# Altium integrated library WE-MAPI (rev25a).IntLib: 184 symbols (part 2 of 4)
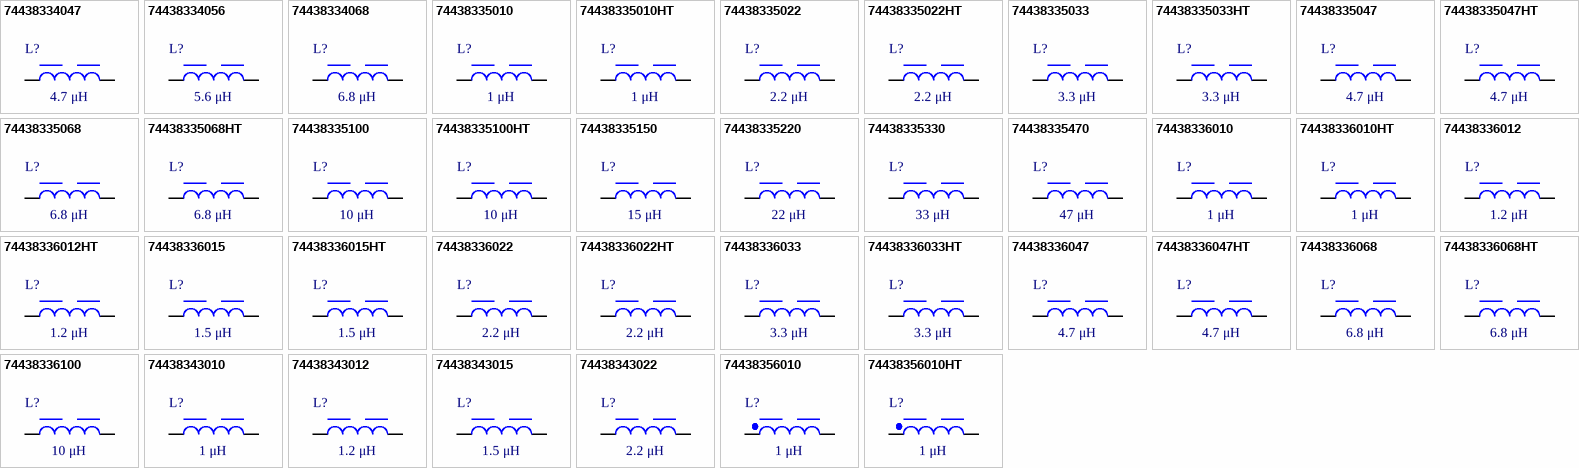
[diagram p5: symbols 74438334047 to 74438356010HT]

## 74438335150
designator L?, comment 15 μH
WE-MAPI SMT Power Inductor, size 3015, 15 μH, 0.95 A, 720 mΩ; Manufacturer Part Number: 74438335150; Manufacturer: Wurth Elektronik; Case/Size Code: 3015; DC Resistance: 720 mΩ; Operating Voltage (DC): 80 V; Performance Rated Current: 0.95 A; Saturation Current @ 30%: 2.2 A; Self Resonant Frequency: 14 MHz; Category: Power Inductors; Match Code: WE-MAPI; ComponentLink1Description: Website Link; ComponentLink1URL: https://www.we-online.com/redexpert/article/74438335150?ad; ComponentLink2Description: Datasheet Link; ComponentLink2URL: https://www.we-online.com/redexpert/spec/74438335150?ad; Mount: Surface Mount; Min Operating Temperature: -40 °C; Max Operating Temperature: 125 °C; Packaging: Tape and Reel; Length: 3 mm; Width: 3 mm; Height: 1.5 mm; Inductance: 15 μH
footprint WE-MAPI_3015
simulation model 3015_74438335150_15u
pins: 1, 2

## 74438335220
designator L?, comment 22 μH
WE-MAPI SMT Power Inductor, size 3015, 22 μH, 0.85 A, 940 mΩ; Manufacturer Part Number: 74438335220; Manufacturer: Wurth Elektronik; Case/Size Code: 3015; DC Resistance: 940 mΩ; Operating Voltage (DC): 80 V; Performance Rated Current: 0.85 A; Saturation Current @ 30%: 1.95 A; Self Resonant Frequency: 12 MHz; Category: Power Inductors; Match Code: WE-MAPI; ComponentLink1Description: Website Link; ComponentLink1URL: https://www.we-online.com/redexpert/article/74438335220?ad; ComponentLink2Description: Datasheet Link; ComponentLink2URL: https://www.we-online.com/redexpert/spec/74438335220?ad; Mount: Surface Mount; Min Operating Temperature: -40 °C; Max Operating Temperature: 125 °C; Packaging: Tape and Reel; Length: 3 mm; Width: 3 mm; Height: 1.5 mm; Inductance: 22 μH
footprint WE-MAPI_3015
simulation model 3015_74438335220_22u
pins: 1, 2

## 74438335330
designator L?, comment 33 μH
WE-MAPI SMT Power Inductor, size 3015, 33 μH, 0.7 A, 1210 mΩ; Manufacturer Part Number: 74438335330; Manufacturer: Wurth Elektronik; Case/Size Code: 3015; DC Resistance: 1210 mΩ; Operating Voltage (DC): 80 V; Performance Rated Current: 0.7 A; Saturation Current @ 30%: 1.7 A; Self Resonant Frequency: 10 MHz; Category: Power Inductors; Match Code: WE-MAPI; ComponentLink1Description: Website Link; ComponentLink1URL: https://www.we-online.com/redexpert/article/74438335330?ad; ComponentLink2Description: Datasheet Link; ComponentLink2URL: https://www.we-online.com/redexpert/spec/74438335330?ad; Mount: Surface Mount; Min Operating Temperature: -40 °C; Max Operating Temperature: 125 °C; Packaging: Tape and Reel; Length: 3 mm; Width: 3 mm; Height: 1.5 mm; Inductance: 33 μH
footprint WE-MAPI_3015
simulation model 3015_74438335330_33u
pins: 1, 2

## 74438335470
designator L?, comment 47 μH
WE-MAPI SMT Power Inductor, size 3015, 47 μH, 0.55 A, 2090 mΩ; Manufacturer Part Number: 74438335470; Manufacturer: Wurth Elektronik; Case/Size Code: 3015; DC Resistance: 2090 mΩ; Operating Voltage (DC): 80 V; Performance Rated Current: 0.55 A; Saturation Current @ 30%: 1.5 A; Self Resonant Frequency: 8 MHz; Category: Power Inductors; Match Code: WE-MAPI; ComponentLink1Description: Website Link; ComponentLink1URL: https://www.we-online.com/redexpert/article/74438335470?ad; ComponentLink2Description: Datasheet Link; ComponentLink2URL: https://www.we-online.com/redexpert/spec/74438335470?ad; Mount: Surface Mount; Min Operating Temperature: -40 °C; Max Operating Temperature: 125 °C; Packaging: Tape and Reel; Length: 3 mm; Width: 3 mm; Height: 1.5 mm; Inductance: 47 μH
footprint WE-MAPI_3015
simulation model 3015_74438335470_47u
pins: 1, 2

## 74438336010
designator L?, comment 1 μH
WE-MAPI SMT Power Inductor, size 3020, 1 μH, 6.15 A, 26 mΩ; Manufacturer Part Number: 74438336010; Manufacturer: Wurth Elektronik; Case/Size Code: 3020; DC Resistance: 26 mΩ; Operating Voltage (DC): 80 V; Performance Rated Current: 6.15 A; Saturation Current @ 30%: 6.5 A; Self Resonant Frequency: 67 MHz; Category: Power Inductors; Match Code: WE-MAPI; ComponentLink1Description: Website Link; ComponentLink1URL: https://www.we-online.com/redexpert/article/74438336010?ad; ComponentLink2Description: Datasheet Link; ComponentLink2URL: https://www.we-online.com/redexpert/spec/74438336010?ad; Mount: Surface Mount; Min Operating Temperature: -40 °C; Max Operating Temperature: 125 °C; Packaging: Tape and Reel; Length: 3 mm; Width: 3 mm; Height: 2 mm; Inductance: 1 μH
footprint WE-MAPI_3020
simulation model 3020_74438336010_1u
pins: 1, 2

## 74438336010HT
designator L?, comment 1 μH
WE-MAPI SMT Power Inductor, size 3020, 1 μH, 5.8 A, 28.5 mΩ; Manufacturer Part Number: 74438336010HT; Manufacturer: Wurth Elektronik; Case/Size Code: 3020; DC Resistance: 28.5 mΩ; Operating Voltage (DC): 80 V; Performance Rated Current: 5.8 A; Saturation Current @ 30%: 6.3 A; Self Resonant Frequency: 67 MHz; Category: Power Inductors; Match Code: WE-MAPI; ComponentLink1Description: Website Link; ComponentLink1URL: https://www.we-online.com/redexpert/article/74438336010HT?ad; ComponentLink2Description: Datasheet Link; ComponentLink2URL: https://www.we-online.com/redexpert/spec/74438336010HT?ad; Mount: Surface Mount; Min Operating Temperature: -55 °C; Max Operating Temperature: 150 °C; Packaging: Tape and Reel; Length: 3 mm; Width: 3 mm; Height: 2 mm; Inductance: 1 μH
footprint WE-MAPI_3020
simulation model 3020HT_74438336010HT_1u
pins: 1, 2

## 74438336012
designator L?, comment 1.2 μH
WE-MAPI SMT Power Inductor, size 3020, 1.2 μH, 5.65 A, 30 mΩ; Manufacturer Part Number: 74438336012; Manufacturer: Wurth Elektronik; Case/Size Code: 3020; DC Resistance: 30 mΩ; Operating Voltage (DC): 80 V; Performance Rated Current: 5.65 A; Saturation Current @ 30%: 6 A; Self Resonant Frequency: 57 MHz; Category: Power Inductors; Match Code: WE-MAPI; ComponentLink1Description: Website Link; ComponentLink1URL: https://www.we-online.com/redexpert/article/74438336012?ad; ComponentLink2Description: Datasheet Link; ComponentLink2URL: https://www.we-online.com/redexpert/spec/74438336012?ad; Mount: Surface Mount; Min Operating Temperature: -40 °C; Max Operating Temperature: 125 °C; Packaging: Tape and Reel; Length: 3 mm; Width: 3 mm; Height: 2 mm; Inductance: 1.2 μH
footprint WE-MAPI_3020
simulation model 3020_74438336012_1.2u
pins: 1, 2

## 74438336012HT
designator L?, comment 1.2 μH
WE-MAPI SMT Power Inductor, size 3020, 1.2 μH, 5.4 A, 32.6 mΩ; Manufacturer Part Number: 74438336012HT; Manufacturer: Wurth Elektronik; Case/Size Code: 3020; DC Resistance: 32.6 mΩ; Operating Voltage (DC): 80 V; Performance Rated Current: 5.4 A; Saturation Current @ 30%: 6 A; Self Resonant Frequency: 60 MHz; Category: Power Inductors; Match Code: WE-MAPI; ComponentLink1Description: Website Link; ComponentLink1URL: https://www.we-online.com/redexpert/article/74438336012HT?ad; ComponentLink2Description: Datasheet Link; ComponentLink2URL: https://www.we-online.com/redexpert/spec/74438336012HT?ad; Mount: Surface Mount; Min Operating Temperature: -55 °C; Max Operating Temperature: 150 °C; Packaging: Tape and Reel; Length: 3 mm; Width: 3 mm; Height: 2 mm; Inductance: 1.2 μH
footprint WE-MAPI_3020
simulation model 3020HT_74438336012HT_1.2u
pins: 1, 2

## 74438336015
designator L?, comment 1.5 μH
WE-MAPI SMT Power Inductor, size 3020, 1.5 μH, 5.35 A, 33 mΩ; Manufacturer Part Number: 74438336015; Manufacturer: Wurth Elektronik; Case/Size Code: 3020; DC Resistance: 33 mΩ; Operating Voltage (DC): 80 V; Performance Rated Current: 5.35 A; Saturation Current @ 30%: 5.85 A; Self Resonant Frequency: 51 MHz; Category: Power Inductors; Match Code: WE-MAPI; ComponentLink1Description: Website Link; ComponentLink1URL: https://www.we-online.com/redexpert/article/74438336015?ad; ComponentLink2Description: Datasheet Link; ComponentLink2URL: https://www.we-online.com/redexpert/spec/74438336015?ad; Mount: Surface Mount; Min Operating Temperature: -40 °C; Max Operating Temperature: 125 °C; Packaging: Tape and Reel; Length: 3 mm; Width: 3 mm; Height: 2 mm; Inductance: 1.5 μH
footprint WE-MAPI_3020
simulation model 3020_74438336015_1.5u
pins: 1, 2

## 74438336015HT
designator L?, comment 1.5 μH
WE-MAPI SMT Power Inductor, size 3020, 1.5 μH, 5.2 A, 35.2 mΩ; Manufacturer Part Number: 74438336015HT; Manufacturer: Wurth Elektronik; Case/Size Code: 3020; DC Resistance: 35.2 mΩ; Operating Voltage (DC): 80 V; Performance Rated Current: 5.2 A; Saturation Current @ 30%: 5.5 A; Self Resonant Frequency: 53 MHz; Category: Power Inductors; Match Code: WE-MAPI; ComponentLink1Description: Website Link; ComponentLink1URL: https://www.we-online.com/redexpert/article/74438336015HT?ad; ComponentLink2Description: Datasheet Link; ComponentLink2URL: https://www.we-online.com/redexpert/spec/74438336015HT?ad; Mount: Surface Mount; Min Operating Temperature: -55 °C; Max Operating Temperature: 150 °C; Packaging: Tape and Reel; Length: 3 mm; Width: 3 mm; Height: 2 mm; Inductance: 1.5 μH
footprint WE-MAPI_3020
simulation model 3020HT_74438336015HT_1.5u
pins: 1, 2

## 74438336022
designator L?, comment 2.2 μH
WE-MAPI SMT Power Inductor, size 3020, 2.2 μH, 3.6 A, 67 mΩ; Manufacturer Part Number: 74438336022; Manufacturer: Wurth Elektronik; Case/Size Code: 3020; DC Resistance: 67 mΩ; Operating Voltage (DC): 80 V; Performance Rated Current: 3.6 A; Saturation Current @ 30%: 5.55 A; Self Resonant Frequency: 42 MHz; Category: Power Inductors; Match Code: WE-MAPI; ComponentLink1Description: Website Link; ComponentLink1URL: https://www.we-online.com/redexpert/article/74438336022?ad; ComponentLink2Description: Datasheet Link; ComponentLink2URL: https://www.we-online.com/redexpert/spec/74438336022?ad; Mount: Surface Mount; Min Operating Temperature: -40 °C; Max Operating Temperature: 125 °C; Packaging: Tape and Reel; Length: 3 mm; Width: 3 mm; Height: 2 mm; Inductance: 2.2 μH
footprint WE-MAPI_3020
simulation model 3020_74438336022_2.2u
pins: 1, 2

## 74438336022HT
designator L?, comment 2.2 μH
WE-MAPI SMT Power Inductor, size 3020, 2.2 μH, 4 A, 56.9 mΩ; Manufacturer Part Number: 74438336022HT; Manufacturer: Wurth Elektronik; Case/Size Code: 3020; DC Resistance: 56.9 mΩ; Operating Voltage (DC): 80 V; Performance Rated Current: 4 A; Saturation Current @ 30%: 5.2 A; Self Resonant Frequency: 47 MHz; Category: Power Inductors; Match Code: WE-MAPI; ComponentLink1Description: Website Link; ComponentLink1URL: https://www.we-online.com/redexpert/article/74438336022HT?ad; ComponentLink2Description: Datasheet Link; ComponentLink2URL: https://www.we-online.com/redexpert/spec/74438336022HT?ad; Mount: Surface Mount; Min Operating Temperature: -55 °C; Max Operating Temperature: 150 °C; Packaging: Tape and Reel; Length: 3 mm; Width: 3 mm; Height: 2 mm; Inductance: 2.2 μH
footprint WE-MAPI_3020
simulation model 3020HT_74438336022HT_2.2u
pins: 1, 2

## 74438336033
designator L?, comment 3.3 μH
WE-MAPI SMT Power Inductor, size 3020, 3.3 μH, 2.9 A, 99 mΩ; Manufacturer Part Number: 74438336033; Manufacturer: Wurth Elektronik; Case/Size Code: 3020; DC Resistance: 99 mΩ; Operating Voltage (DC): 80 V; Performance Rated Current: 2.9 A; Saturation Current @ 30%: 5.35 A; Self Resonant Frequency: 39 MHz; Category: Power Inductors; Match Code: WE-MAPI; ComponentLink1Description: Website Link; ComponentLink1URL: https://www.we-online.com/redexpert/article/74438336033?ad; ComponentLink2Description: Datasheet Link; ComponentLink2URL: https://www.we-online.com/redexpert/spec/74438336033?ad; Mount: Surface Mount; Min Operating Temperature: -40 °C; Max Operating Temperature: 125 °C; Packaging: Tape and Reel; Length: 3 mm; Width: 3 mm; Height: 2 mm; Inductance: 3.3 μH
footprint WE-MAPI_3020
simulation model 3020_74438336033_3.3u
pins: 1, 2

## 74438336033HT
designator L?, comment 3.3 μH
WE-MAPI SMT Power Inductor, size 3020, 3.3 μH, 3.1 A, 85.9 mΩ; Manufacturer Part Number: 74438336033HT; Manufacturer: Wurth Elektronik; Case/Size Code: 3020; DC Resistance: 85.9 mΩ; Operating Voltage (DC): 80 V; Performance Rated Current: 3.1 A; Saturation Current @ 30%: 4.3 A; Self Resonant Frequency: 37 MHz; Category: Power Inductors; Match Code: WE-MAPI; ComponentLink1Description: Website Link; ComponentLink1URL: https://www.we-online.com/redexpert/article/74438336033HT?ad; ComponentLink2Description: Datasheet Link; ComponentLink2URL: https://www.we-online.com/redexpert/spec/74438336033HT?ad; Mount: Surface Mount; Min Operating Temperature: -55 °C; Max Operating Temperature: 150 °C; Packaging: Tape and Reel; Length: 3 mm; Width: 3 mm; Height: 2 mm; Inductance: 3.3 μH
footprint WE-MAPI_3020
simulation model 3020HT_74438336033HT_3.3u
pins: 1, 2

## 74438336047
designator L?, comment 4.7 μH
WE-MAPI SMT Power Inductor, size 3020, 4.7 μH, 2.4 A, 137 mΩ; Manufacturer Part Number: 74438336047; Manufacturer: Wurth Elektronik; Case/Size Code: 3020; DC Resistance: 137 mΩ; Operating Voltage (DC): 80 V; Performance Rated Current: 2.4 A; Saturation Current @ 30%: 5.15 A; Self Resonant Frequency: 30 MHz; Category: Power Inductors; Match Code: WE-MAPI; ComponentLink1Description: Website Link; ComponentLink1URL: https://www.we-online.com/redexpert/article/74438336047?ad; ComponentLink2Description: Datasheet Link; ComponentLink2URL: https://www.we-online.com/redexpert/spec/74438336047?ad; Mount: Surface Mount; Min Operating Temperature: -40 °C; Max Operating Temperature: 125 °C; Packaging: Tape and Reel; Length: 3 mm; Width: 3 mm; Height: 2 mm; Inductance: 4.7 μH
footprint WE-MAPI_3020
simulation model 3020_74438336047_4.7u
pins: 1, 2

## 74438336047HT
designator L?, comment 4.7 μH
WE-MAPI SMT Power Inductor, size 3020, 4.7 μH, 2.5 A, 130.6 mΩ; Manufacturer Part Number: 74438336047HT; Manufacturer: Wurth Elektronik; Case/Size Code: 3020; Operating Voltage (DC): 80 V; Performance Rated Current: 2.5 A; Saturation Current @ 30%: 4.1 A; Self Resonant Frequency: 28 MHz; Category: Power Inductors; Match Code: WE-MAPI; ComponentLink1Description: Website Link; ComponentLink1URL: https://www.we-online.com/redexpert/article/74438336047HT?ad; ComponentLink2Description: Datasheet Link; ComponentLink2URL: https://www.we-online.com/redexpert/spec/74438336047HT?ad; Mount: Surface Mount; Min Operating Temperature: -55 °C; Max Operating Temperature: 150 °C; Packaging: Tape and Reel; Length: 3 mm; Width: 3 mm; Height: 2 mm; DC Resistance: 130.6 mΩ; Inductance: 4.7 μH
footprint WE-MAPI_3020
simulation model 3020HT_74438336047HT_4.7u
pins: 1, 2

## 74438336068
designator L?, comment 6.8 μH
WE-MAPI SMT Power Inductor, size 3020, 6.8 μH, 2.15 A, 168 mΩ; Manufacturer Part Number: 74438336068; Manufacturer: Wurth Elektronik; Case/Size Code: 3020; DC Resistance: 168 mΩ; Operating Voltage (DC): 80 V; Performance Rated Current: 2.15 A; Saturation Current @ 30%: 3.65 A; Self Resonant Frequency: 22 MHz; Category: Power Inductors; Match Code: WE-MAPI; ComponentLink1Description: Website Link; ComponentLink1URL: https://www.we-online.com/redexpert/article/74438336068?ad; ComponentLink2Description: Datasheet Link; ComponentLink2URL: https://www.we-online.com/redexpert/spec/74438336068?ad; Mount: Surface Mount; Min Operating Temperature: -40 °C; Max Operating Temperature: 125 °C; Packaging: Tape and Reel; Length: 3 mm; Width: 3 mm; Height: 2 mm; Inductance: 6.8 μH
footprint WE-MAPI_3020
simulation model 3020_74438336068_6.8u
pins: 1, 2

## 74438336068HT
designator L?, comment 6.8 μH
WE-MAPI SMT Power Inductor, size 3020, 6.8 μH, 2 A, 197.4 mΩ; Manufacturer Part Number: 74438336068HT; Manufacturer: Wurth Elektronik; Case/Size Code: 3020; Operating Voltage (DC): 80 V; Performance Rated Current: 2 A; Saturation Current @ 30%: 3.7 A; Self Resonant Frequency: 22 MHz; Category: Power Inductors; Match Code: WE-MAPI; ComponentLink1Description: Website Link; ComponentLink1URL: https://www.we-online.com/redexpert/article/74438336068HT?ad; ComponentLink2Description: Datasheet Link; ComponentLink2URL: https://www.we-online.com/redexpert/spec/74438336068HT?ad; Mount: Surface Mount; Min Operating Temperature: -55 °C; Max Operating Temperature: 150 °C; Packaging: Tape and Reel; Length: 3 mm; Width: 3 mm; Height: 2 mm; DC Resistance: 197.4 mΩ; Inductance: 6.8 μH
footprint WE-MAPI_3020
simulation model 3020HT_74438336068HT_6.8u
pins: 1, 2

## 74438336100
designator L?, comment 10 μH
WE-MAPI SMT Power Inductor, size 3020, 10 μH, 1.65 A, 280 mΩ; Manufacturer Part Number: 74438336100; Manufacturer: Wurth Elektronik; Case/Size Code: 3020; DC Resistance: 280 mΩ; Operating Voltage (DC): 80 V; Performance Rated Current: 1.65 A; Saturation Current @ 30%: 3 A; Self Resonant Frequency: 18 MHz; Category: Power Inductors; Match Code: WE-MAPI; ComponentLink1Description: Website Link; ComponentLink1URL: https://www.we-online.com/redexpert/article/74438336100?ad; ComponentLink2Description: Datasheet Link; ComponentLink2URL: https://www.we-online.com/redexpert/spec/74438336100?ad; Mount: Surface Mount; Min Operating Temperature: -40 °C; Max Operating Temperature: 125 °C; Packaging: Tape and Reel; Length: 3 mm; Width: 3 mm; Height: 2 mm; Inductance: 10 μH
footprint WE-MAPI_3020
simulation model 3020_74438336100_10u
pins: 1, 2

## 74438343010
designator L?, comment 1 μH
WE-MAPI SMT Power Inductor, size 2010, 1 μH, 2.8 A, 86 mΩ; Manufacturer Part Number: 74438343010; Manufacturer: Wurth Elektronik; Case/Size Code: 2010; DC Resistance: 86 mΩ; Operating Voltage (DC): 80 V; Performance Rated Current: 2.8 A; Saturation Current @ 30%: 4.7 A; Self Resonant Frequency: 99 MHz; Category: Power Inductors; Match Code: WE-MAPI; ComponentLink1Description: Website Link; ComponentLink1URL: https://www.we-online.com/redexpert/article/74438343010?ad; ComponentLink2Description: Datasheet Link; ComponentLink2URL: https://www.we-online.com/redexpert/spec/74438343010?ad; Mount: Surface Mount; Min Operating Temperature: -40 °C; Max Operating Temperature: 125 °C; Packaging: Tape and Reel; Length: 2 mm; Width: 1.6 mm; Height: 1 mm; Inductance: 1 μH
footprint WE-MAPI_2010
simulation model 2010_74438343010_1u
pins: 1, 2

## 74438343012
designator L?, comment 1.2 μH
WE-MAPI SMT Power Inductor, size 2010, 1.2 μH, 2.4 A, 114 mΩ; Manufacturer Part Number: 74438343012; Manufacturer: Wurth Elektronik; Case/Size Code: 2010; DC Resistance: 114 mΩ; Operating Voltage (DC): 80 V; Performance Rated Current: 2.4 A; Saturation Current @ 30%: 4.9 A; Self Resonant Frequency: 96 MHz; Category: Power Inductors; Match Code: WE-MAPI; ComponentLink1Description: Website Link; ComponentLink1URL: https://www.we-online.com/redexpert/article/74438343012?ad; ComponentLink2Description: Datasheet Link; ComponentLink2URL: https://www.we-online.com/redexpert/spec/74438343012?ad; Mount: Surface Mount; Min Operating Temperature: -40 °C; Max Operating Temperature: 125 °C; Packaging: Tape and Reel; Length: 2 mm; Width: 1.6 mm; Height: 1 mm; Inductance: 1.2 μH
footprint WE-MAPI_2010
simulation model 2010_74438343012_1.2u
pins: 1, 2

## 74438343015
designator L?, comment 1.5 μH
WE-MAPI SMT Power Inductor, size 2010, 1.5 μH, 2.05 A, 150 mΩ; Manufacturer Part Number: 74438343015; Manufacturer: Wurth Elektronik; Case/Size Code: 2010; DC Resistance: 150 mΩ; Operating Voltage (DC): 80 V; Performance Rated Current: 2.05 A; Saturation Current @ 30%: 3.95 A; Self Resonant Frequency: 85 MHz; Category: Power Inductors; Match Code: WE-MAPI; ComponentLink1Description: Website Link; ComponentLink1URL: https://www.we-online.com/redexpert/article/74438343015?ad; ComponentLink2Description: Datasheet Link; ComponentLink2URL: https://www.we-online.com/redexpert/spec/74438343015?ad; Mount: Surface Mount; Min Operating Temperature: -40 °C; Max Operating Temperature: 125 °C; Packaging: Tape and Reel; Length: 2 mm; Width: 1.6 mm; Height: 1 mm; Inductance: 1.5 μH
footprint WE-MAPI_2010
simulation model 2010_74438343015_1.5u
pins: 1, 2

## 74438343022
designator L?, comment 2.2 μH
WE-MAPI SMT Power Inductor, size 2010, 2.2 μH, 1.65 A, 225 mΩ; Manufacturer Part Number: 74438343022; Manufacturer: Wurth Elektronik; Case/Size Code: 2010; DC Resistance: 225 mΩ; Operating Voltage (DC): 80 V; Performance Rated Current: 1.65 A; Saturation Current @ 30%: 3.3 A; Self Resonant Frequency: 70 MHz; Category: Power Inductors; Match Code: WE-MAPI; ComponentLink1Description: Website Link; ComponentLink1URL: https://www.we-online.com/redexpert/article/74438343022?ad; ComponentLink2Description: Datasheet Link; ComponentLink2URL: https://www.we-online.com/redexpert/spec/74438343022?ad; Mount: Surface Mount; Min Operating Temperature: -40 °C; Max Operating Temperature: 125 °C; Packaging: Tape and Reel; Length: 2 mm; Width: 1.6 mm; Height: 1 mm; Inductance: 2.2 μH
footprint WE-MAPI_2010
simulation model 2010_74438343022_2.2u
pins: 1, 2

## 74438356010
designator L?, comment 1 μH
WE-MAPI SMT Power Inductor, size 4020, 1 μH, 10.1 A, 12 mΩ; Manufacturer Part Number: 74438356010; Manufacturer: Wurth Elektronik; Case/Size Code: 4020; DC Resistance: 12 mΩ; Operating Voltage (DC): 80 V; Performance Rated Current: 10.1 A; Saturation Current @ 30%: 11.5 A; Self Resonant Frequency: 55 MHz; Category: Power Inductors; Match Code: WE-MAPI; ComponentLink1Description: Website Link; ComponentLink1URL: https://www.we-online.com/redexpert/article/74438356010?ad; ComponentLink2Description: Datasheet Link; ComponentLink2URL: https://www.we-online.com/redexpert/spec/74438356010?ad; Mount: Surface Mount; Min Operating Temperature: -40 °C; Max Operating Temperature: 125 °C; Packaging: Tape and Reel; Length: 4.1 mm; Width: 4.1 mm; Height: 2.1 mm; Inductance: 1 μH
footprint WE-MAPI_4020
simulation model 4020_74438356010_1u
pins: 1, 2

## 74438356010HT
designator L?, comment 1 μH
WE-MAPI SMT Power Inductor, size 4020, 1 μH, 8.75 A, 13.5 mΩ; Manufacturer Part Number: 74438356010HT; Manufacturer: Wurth Elektronik; Case/Size Code: 4020; DC Resistance: 13.5 mΩ; Operating Voltage (DC): 80 V; Performance Rated Current: 8.75 A; Saturation Current @ 30%: 9.3 A; Self Resonant Frequency: 46 MHz; Category: Power Inductors; Match Code: WE-MAPI; ComponentLink1Description: Website Link; ComponentLink1URL: https://www.we-online.com/redexpert/article/74438356010HT?ad; ComponentLink2Description: Datasheet Link; ComponentLink2URL: https://www.we-online.com/redexpert/spec/74438356010HT?ad; Mount: Surface Mount; Min Operating Temperature: -55 °C; Max Operating Temperature: 150 °C; Packaging: Tape and Reel; Length: 4.1 mm; Width: 4.1 mm; Height: 2.1 mm; Inductance: 1 μH
footprint WE-MAPI_4020
simulation model 4020_74438356010HT_1u
pins: 1, 2

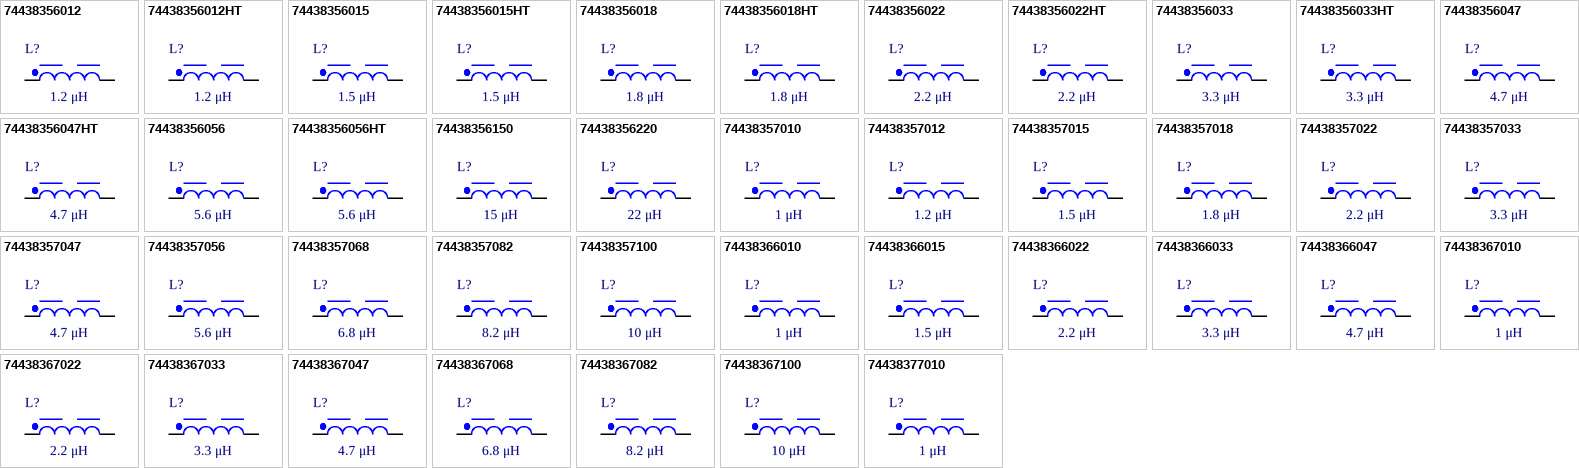
[diagram p2: symbols 74438356012 to 74438377010]

## 74438356012
designator L?, comment 1.2 μH
WE-MAPI SMT Power Inductor, size 4020, 1.2 μH, 8.9 A, 15 mΩ; Manufacturer Part Number: 74438356012; Manufacturer: Wurth Elektronik; Case/Size Code: 4020; DC Resistance: 15 mΩ; Operating Voltage (DC): 80 V; Performance Rated Current: 8.9 A; Saturation Current @ 30%: 11.2 A; Self Resonant Frequency: 52 MHz; Category: Power Inductors; Match Code: WE-MAPI; ComponentLink1Description: Website Link; ComponentLink1URL: https://www.we-online.com/redexpert/article/74438356012?ad; ComponentLink2Description: Datasheet Link; ComponentLink2URL: https://www.we-online.com/redexpert/spec/74438356012?ad; Mount: Surface Mount; Min Operating Temperature: -40 °C; Max Operating Temperature: 125 °C; Packaging: Tape and Reel; Length: 4.1 mm; Width: 4.1 mm; Height: 2.1 mm; Inductance: 1.2 μH
footprint WE-MAPI_4020
simulation model 4020_74438356012_1.2u
pins: 1, 2

## 74438356012HT
designator L?, comment 1.2 μH
WE-MAPI SMT Power Inductor, size 4020, 1.2 μH, 8 A, 16 mΩ; Manufacturer Part Number: 74438356012HT; Manufacturer: Wurth Elektronik; Case/Size Code: 4020; DC Resistance: 16 mΩ; Operating Voltage (DC): 80 V; Performance Rated Current: 8 A; Saturation Current @ 30%: 9.3 A; Self Resonant Frequency: 45 MHz; Category: Power Inductors; Match Code: WE-MAPI; ComponentLink1Description: Website Link; ComponentLink1URL: https://www.we-online.com/redexpert/article/74438356012HT?ad; ComponentLink2Description: Datasheet Link; ComponentLink2URL: https://www.we-online.com/redexpert/spec/74438356012HT?ad; Mount: Surface Mount; Min Operating Temperature: -55 °C; Max Operating Temperature: 150 °C; Packaging: Tape and Reel; Length: 4.1 mm; Width: 4.1 mm; Height: 2.1 mm; Inductance: 1.2 μH
footprint WE-MAPI_4020
simulation model 4020_74438356012HT_1.2u
pins: 1, 2

## 74438356015
designator L?, comment 1.5 μH
WE-MAPI SMT Power Inductor, size 4020, 1.5 μH, 8.6 A, 16 mΩ; Manufacturer Part Number: 74438356015; Manufacturer: Wurth Elektronik; Case/Size Code: 4020; DC Resistance: 16 mΩ; Operating Voltage (DC): 80 V; Performance Rated Current: 8.6 A; Saturation Current @ 30%: 10.2 A; Self Resonant Frequency: 48 MHz; Category: Power Inductors; Match Code: WE-MAPI; ComponentLink1Description: Website Link; ComponentLink1URL: https://www.we-online.com/redexpert/article/74438356015?ad; ComponentLink2Description: Datasheet Link; ComponentLink2URL: https://www.we-online.com/redexpert/spec/74438356015?ad; Mount: Surface Mount; Min Operating Temperature: -40 °C; Max Operating Temperature: 125 °C; Packaging: Tape and Reel; Length: 4.1 mm; Width: 4.1 mm; Height: 2.1 mm; Inductance: 1.5 μH
footprint WE-MAPI_4020
simulation model 4020_74438356015_1.5u
pins: 1, 2

## 74438356015HT
designator L?, comment 1.5 μH
WE-MAPI SMT Power Inductor, size 4020, 1.5 μH, 7.45 A, 18 mΩ; Manufacturer Part Number: 74438356015HT; Manufacturer: Wurth Elektronik; Case/Size Code: 4020; DC Resistance: 18 mΩ; Operating Voltage (DC): 80 V; Performance Rated Current: 7.45 A; Saturation Current @ 30%: 9 A; Self Resonant Frequency: 40 MHz; Category: Power Inductors; Match Code: WE-MAPI; ComponentLink1Description: Website Link; ComponentLink1URL: https://www.we-online.com/redexpert/article/74438356015HT?ad; ComponentLink2Description: Datasheet Link; ComponentLink2URL: https://www.we-online.com/redexpert/spec/74438356015HT?ad; Mount: Surface Mount; Min Operating Temperature: -55 °C; Max Operating Temperature: 150 °C; Packaging: Tape and Reel; Length: 4.1 mm; Width: 4.1 mm; Height: 2.1 mm; Inductance: 1.5 μH
footprint WE-MAPI_4020
simulation model 4020_74438356015HT_1.5u
pins: 1, 2

## 74438356018
designator L?, comment 1.8 μH
WE-MAPI SMT Power Inductor, size 4020, 1.8 μH, 6.8 A, 24.5 mΩ; Manufacturer Part Number: 74438356018; Manufacturer: Wurth Elektronik; Case/Size Code: 4020; DC Resistance: 24.5 mΩ; Operating Voltage (DC): 80 V; Performance Rated Current: 6.8 A; Saturation Current @ 30%: 8.7 A; Self Resonant Frequency: 40 MHz; Category: Power Inductors; Match Code: WE-MAPI; ComponentLink1Description: Website Link; ComponentLink1URL: https://www.we-online.com/redexpert/article/74438356018?ad; ComponentLink2Description: Datasheet Link; ComponentLink2URL: https://www.we-online.com/redexpert/spec/74438356018?ad; Mount: Surface Mount; Min Operating Temperature: -40 °C; Max Operating Temperature: 125 °C; Packaging: Tape and Reel; Length: 4.1 mm; Width: 4.1 mm; Height: 2.1 mm; Inductance: 1.8 μH
footprint WE-MAPI_4020
simulation model 4020_74438356018_1.8u
pins: 1, 2

## 74438356018HT
designator L?, comment 1.8 μH
WE-MAPI SMT Power Inductor, size 4020, 1.8 μH, 6.05 A, 26 mΩ; Manufacturer Part Number: 74438356018HT; Manufacturer: Wurth Elektronik; Case/Size Code: 4020; DC Resistance: 26 mΩ; Operating Voltage (DC): 80 V; Performance Rated Current: 6.05 A; Saturation Current @ 30%: 8.3 A; Self Resonant Frequency: 37.5 MHz; Category: Power Inductors; Match Code: WE-MAPI; ComponentLink1Description: Website Link; ComponentLink1URL: https://www.we-online.com/redexpert/article/74438356018HT?ad; ComponentLink2Description: Datasheet Link; ComponentLink2URL: https://www.we-online.com/redexpert/spec/74438356018HT?ad; Mount: Surface Mount; Min Operating Temperature: -55 °C; Max Operating Temperature: 150 °C; Packaging: Tape and Reel; Length: 4.1 mm; Width: 4.1 mm; Height: 2.1 mm; Inductance: 1.8 μH
footprint WE-MAPI_4020
simulation model 4020_74438356018HT_1.8u
pins: 1, 2

## 74438356022
designator L?, comment 2.2 μH
WE-MAPI SMT Power Inductor, size 4020, 2.2 μH, 6.2 A, 29 mΩ; Manufacturer Part Number: 74438356022; Manufacturer: Wurth Elektronik; Case/Size Code: 4020; DC Resistance: 29 mΩ; Operating Voltage (DC): 80 V; Performance Rated Current: 6.2 A; Saturation Current @ 30%: 7.9 A; Self Resonant Frequency: 34 MHz; Category: Power Inductors; Match Code: WE-MAPI; ComponentLink1Description: Website Link; ComponentLink1URL: https://www.we-online.com/redexpert/article/74438356022?ad; ComponentLink2Description: Datasheet Link; ComponentLink2URL: https://www.we-online.com/redexpert/spec/74438356022?ad; Mount: Surface Mount; Min Operating Temperature: -40 °C; Max Operating Temperature: 125 °C; Packaging: Tape and Reel; Length: 4.1 mm; Width: 4.1 mm; Height: 2.1 mm; Inductance: 2.2 μH
footprint WE-MAPI_4020
simulation model 4020_74438356022_2.2u
pins: 1, 2

## 74438356022HT
designator L?, comment 2.2 μH
WE-MAPI SMT Power Inductor, size 4020, 2.2 μH, 5.9 A, 28 mΩ; Manufacturer Part Number: 74438356022HT; Manufacturer: Wurth Elektronik; Case/Size Code: 4020; DC Resistance: 28 mΩ; Operating Voltage (DC): 80 V; Performance Rated Current: 5.9 A; Saturation Current @ 30%: 7.6 A; Self Resonant Frequency: 30 MHz; Category: Power Inductors; Match Code: WE-MAPI; ComponentLink1Description: Website Link; ComponentLink1URL: https://www.we-online.com/redexpert/article/74438356022HT?ad; ComponentLink2Description: Datasheet Link; ComponentLink2URL: https://www.we-online.com/redexpert/spec/74438356022HT?ad; Mount: Surface Mount; Min Operating Temperature: -55 °C; Max Operating Temperature: 150 °C; Packaging: Tape and Reel; Length: 4.1 mm; Width: 4.1 mm; Height: 2.1 mm; Inductance: 2.2 μH
footprint WE-MAPI_4020
simulation model 4020_74438356022HT_2.2u
pins: 1, 2

## 74438356033
designator L?, comment 3.3 μH
WE-MAPI SMT Power Inductor, size 4020, 3.3 μH, 5.15 A, 39.9 mΩ; Manufacturer Part Number: 74438356033; Manufacturer: Wurth Elektronik; Case/Size Code: 4020; DC Resistance: 39.9 mΩ; Operating Voltage (DC): 80 V; Performance Rated Current: 5.15 A; Saturation Current @ 30%: 7.1 A; Self Resonant Frequency: 26 MHz; Category: Power Inductors; Match Code: WE-MAPI; ComponentLink1Description: Website Link; ComponentLink1URL: https://www.we-online.com/redexpert/article/74438356033?ad; ComponentLink2Description: Datasheet Link; ComponentLink2URL: https://www.we-online.com/redexpert/spec/74438356033?ad; Mount: Surface Mount; Min Operating Temperature: -40 °C; Max Operating Temperature: 125 °C; Packaging: Tape and Reel; Length: 4.1 mm; Width: 4.1 mm; Height: 2.1 mm; Inductance: 3.3 μH
footprint WE-MAPI_4020
simulation model 4020_74438356033_3.3u
pins: 1, 2

## 74438356033HT
designator L?, comment 3.3 μH
WE-MAPI SMT Power Inductor, size 4020, 3.3 μH, 4.45 A, 45 mΩ; Manufacturer Part Number: 74438356033HT; Manufacturer: Wurth Elektronik; Case/Size Code: 4020; DC Resistance: 45 mΩ; Operating Voltage (DC): 80 V; Performance Rated Current: 4.45 A; Saturation Current @ 30%: 6.5 A; Self Resonant Frequency: 25.5 MHz; Category: Power Inductors; Match Code: WE-MAPI; ComponentLink1Description: Website Link; ComponentLink1URL: https://www.we-online.com/redexpert/article/74438356033HT?ad; ComponentLink2Description: Datasheet Link; ComponentLink2URL: https://www.we-online.com/redexpert/spec/74438356033HT?ad; Mount: Surface Mount; Min Operating Temperature: -55 °C; Max Operating Temperature: 150 °C; Packaging: Tape and Reel; Length: 4.1 mm; Width: 4.1 mm; Height: 2.1 mm; Inductance: 3.3 μH
footprint WE-MAPI_4020
simulation model 4020_74438356033HT_3.3u
pins: 1, 2

## 74438356047
designator L?, comment 4.7 μH
WE-MAPI SMT Power Inductor, size 4020, 4.7 μH, 4 A, 63 mΩ; Manufacturer Part Number: 74438356047; Manufacturer: Wurth Elektronik; Case/Size Code: 4020; DC Resistance: 63 mΩ; Operating Voltage (DC): 80 V; Performance Rated Current: 4 A; Saturation Current @ 30%: 5.75 A; Self Resonant Frequency: 22 MHz; Category: Power Inductors; Match Code: WE-MAPI; ComponentLink1Description: Website Link; ComponentLink1URL: https://www.we-online.com/redexpert/article/74438356047?ad; ComponentLink2Description: Datasheet Link; ComponentLink2URL: https://www.we-online.com/redexpert/spec/74438356047?ad; Mount: Surface Mount; Min Operating Temperature: -40 °C; Max Operating Temperature: 125 °C; Packaging: Tape and Reel; Length: 4.1 mm; Width: 4.1 mm; Height: 2.1 mm; Inductance: 4.7 μH
footprint WE-MAPI_4020
simulation model 4020_74438356047_4.7u
pins: 1, 2

## 74438356047HT
designator L?, comment 4.7 μH
WE-MAPI SMT Power Inductor, size 4020, 4.7 μH, 3.7 A, 65 mΩ; Manufacturer Part Number: 74438356047HT; Manufacturer: Wurth Elektronik; Case/Size Code: 4020; DC Resistance: 65 mΩ; Operating Voltage (DC): 80 V; Performance Rated Current: 3.7 A; Saturation Current @ 30%: 5.05 A; Self Resonant Frequency: 18 MHz; Category: Power Inductors; Match Code: WE-MAPI; ComponentLink1Description: Website Link; ComponentLink1URL: https://www.we-online.com/redexpert/article/74438356047HT?ad; ComponentLink2Description: Datasheet Link; ComponentLink2URL: https://www.we-online.com/redexpert/spec/74438356047HT?ad; Mount: Surface Mount; Min Operating Temperature: -55 °C; Max Operating Temperature: 150 °C; Packaging: Tape and Reel; Length: 4.1 mm; Width: 4.1 mm; Height: 2.1 mm; Inductance: 4.7 μH
footprint WE-MAPI_4020
simulation model 4020_74438356047HT_4.7u
pins: 1, 2

## 74438356056
designator L?, comment 5.6 μH
WE-MAPI SMT Power Inductor, size 4020, 5.6 μH, 3.85 A, 68 mΩ; Manufacturer Part Number: 74438356056; Manufacturer: Wurth Elektronik; Case/Size Code: 4020; DC Resistance: 68 mΩ; Operating Voltage (DC): 80 V; Performance Rated Current: 3.85 A; Saturation Current @ 30%: 5.5 A; Self Resonant Frequency: 20 MHz; Category: Power Inductors; Match Code: WE-MAPI; ComponentLink1Description: Website Link; ComponentLink1URL: https://www.we-online.com/redexpert/article/74438356056?ad; ComponentLink2Description: Datasheet Link; ComponentLink2URL: https://www.we-online.com/redexpert/spec/74438356056?ad; Mount: Surface Mount; Min Operating Temperature: -40 °C; Max Operating Temperature: 125 °C; Packaging: Tape and Reel; Length: 4.1 mm; Width: 4.1 mm; Height: 2.1 mm; Inductance: 5.6 μH
footprint WE-MAPI_4020
simulation model 4020_74438356056_5.6u
pins: 1, 2

## 74438356056HT
designator L?, comment 5.6 μH
WE-MAPI SMT Power Inductor, size 4020, 5.6 μH, 3.5 A, 70 mΩ; Manufacturer Part Number: 74438356056HT; Manufacturer: Wurth Elektronik; Case/Size Code: 4020; DC Resistance: 70 mΩ; Operating Voltage (DC): 80 V; Performance Rated Current: 3.5 A; Saturation Current @ 30%: 4.9 A; Self Resonant Frequency: 17 MHz; Category: Power Inductors; Match Code: WE-MAPI; ComponentLink1Description: Website Link; ComponentLink1URL: https://www.we-online.com/redexpert/article/74438356056HT?ad; ComponentLink2Description: Datasheet Link; ComponentLink2URL: https://www.we-online.com/redexpert/spec/74438356056HT?ad; Mount: Surface Mount; Min Operating Temperature: -55 °C; Max Operating Temperature: 150 °C; Packaging: Tape and Reel; Length: 4.1 mm; Width: 4.1 mm; Height: 2.1 mm; Inductance: 5.6 μH
footprint WE-MAPI_4020
simulation model 4020_74438356056HT_5.6u
pins: 1, 2

## 74438356150
designator L?, comment 15 μH
WE-MAPI SMT Power Inductor, size 4020, 15 μH, 2.1 A, 200 mΩ; Manufacturer Part Number: 74438356150; Manufacturer: Wurth Elektronik; Case/Size Code: 4020; DC Resistance: 200 mΩ; Operating Voltage (DC): 80 V; Performance Rated Current: 2.1 A; Saturation Current @ 30%: 2.85 A; Self Resonant Frequency: 14 MHz; Category: Power Inductors; Match Code: WE-MAPI; ComponentLink1Description: Website Link; ComponentLink1URL: https://www.we-online.com/redexpert/article/74438356150?ad; ComponentLink2Description: Datasheet Link; ComponentLink2URL: https://www.we-online.com/redexpert/spec/74438356150?ad; Mount: Surface Mount; Min Operating Temperature: -40 °C; Max Operating Temperature: 125 °C; Packaging: Tape and Reel; Length: 4.1 mm; Width: 4.1 mm; Height: 2.1 mm; Inductance: 15 μH
footprint WE-MAPI_4020
simulation model 4020_74438356150_15u
pins: 1, 2

## 74438356220
designator L?, comment 22 μH
WE-MAPI SMT Power Inductor, size 4020, 22 μH, 1.85 A, 250 mΩ; Manufacturer Part Number: 74438356220; Manufacturer: Wurth Elektronik; Case/Size Code: 4020; DC Resistance: 250 mΩ; Operating Voltage (DC): 80 V; Performance Rated Current: 1.85 A; Saturation Current @ 30%: 2.45 A; Self Resonant Frequency: 11 MHz; Category: Power Inductors; Match Code: WE-MAPI; ComponentLink1Description: Website Link; ComponentLink1URL: https://www.we-online.com/redexpert/article/74438356220?ad; ComponentLink2Description: Datasheet Link; ComponentLink2URL: https://www.we-online.com/redexpert/spec/74438356220?ad; Mount: Surface Mount; Min Operating Temperature: -40 °C; Max Operating Temperature: 125 °C; Packaging: Tape and Reel; Length: 4.1 mm; Width: 4.1 mm; Height: 2.1 mm; Inductance: 22 μH
footprint WE-MAPI_4020
simulation model 4020_74438356220_22u
pins: 1, 2

## 74438357010
designator L?, comment 1 μH
WE-MAPI SMT Power Inductor, size 4030, 1 μH, 10.25 A, 11.6 mΩ; Manufacturer Part Number: 74438357010; Manufacturer: Wurth Elektronik; Case/Size Code: 4030; DC Resistance: 11.6 mΩ; Operating Voltage (DC): 80 V; Performance Rated Current: 10.25 A; Saturation Current @ 30%: 12.5 A; Self Resonant Frequency: 59 MHz; Category: Power Inductors; Match Code: WE-MAPI; ComponentLink1Description: Website Link; ComponentLink1URL: https://www.we-online.com/redexpert/article/74438357010?ad; ComponentLink2Description: Datasheet Link; ComponentLink2URL: https://www.we-online.com/redexpert/spec/74438357010?ad; Mount: Surface Mount; Min Operating Temperature: -40 °C; Max Operating Temperature: 125 °C; Packaging: Tape and Reel; Length: 4.1 mm; Width: 4.1 mm; Height: 3.1 mm; Inductance: 1 μH
footprint WE-MAPI_4030
simulation model 4030_74438357010_1u
pins: 1, 2

## 74438357012
designator L?, comment 1.2 μH
WE-MAPI SMT Power Inductor, size 4030, 1.2 μH, 9.4 A, 13.4 mΩ; Manufacturer Part Number: 74438357012; Manufacturer: Wurth Elektronik; Case/Size Code: 4030; DC Resistance: 13.4 mΩ; Operating Voltage (DC): 80 V; Performance Rated Current: 9.4 A; Saturation Current @ 30%: 11.6 A; Self Resonant Frequency: 51 MHz; Category: Power Inductors; Match Code: WE-MAPI; ComponentLink1Description: Website Link; ComponentLink1URL: https://www.we-online.com/redexpert/article/74438357012?ad; ComponentLink2Description: Datasheet Link; ComponentLink2URL: https://www.we-online.com/redexpert/spec/74438357012?ad; Mount: Surface Mount; Min Operating Temperature: -40 °C; Max Operating Temperature: 125 °C; Packaging: Tape and Reel; Length: 4.1 mm; Width: 4.1 mm; Height: 3.1 mm; Inductance: 1.2 μH
footprint WE-MAPI_4030
simulation model 4030_74438357012_1.2u
pins: 1, 2

## 74438357015
designator L?, comment 1.5 μH
WE-MAPI SMT Power Inductor, size 4030, 1.5 μH, 8.2 A, 17.1 mΩ; Manufacturer Part Number: 74438357015; Manufacturer: Wurth Elektronik; Case/Size Code: 4030; DC Resistance: 17.1 mΩ; Operating Voltage (DC): 80 V; Performance Rated Current: 8.2 A; Saturation Current @ 30%: 11 A; Self Resonant Frequency: 48 MHz; Category: Power Inductors; Match Code: WE-MAPI; ComponentLink1Description: Website Link; ComponentLink1URL: https://www.we-online.com/redexpert/article/74438357015?ad; ComponentLink2Description: Datasheet Link; ComponentLink2URL: https://www.we-online.com/redexpert/spec/74438357015?ad; Mount: Surface Mount; Min Operating Temperature: -40 °C; Max Operating Temperature: 125 °C; Packaging: Tape and Reel; Length: 4.1 mm; Width: 4.1 mm; Height: 3.1 mm; Inductance: 1.5 μH
footprint WE-MAPI_4030
simulation model 4030_74438357015_1.5u
pins: 1, 2

## 74438357018
designator L?, comment 1.8 μH
WE-MAPI SMT Power Inductor, size 4030, 1.8 μH, 7.9 A, 18 mΩ; Manufacturer Part Number: 74438357018; Manufacturer: Wurth Elektronik; Case/Size Code: 4030; DC Resistance: 18 mΩ; Operating Voltage (DC): 80 V; Performance Rated Current: 7.9 A; Saturation Current @ 30%: 10.3 A; Self Resonant Frequency: 42 MHz; Category: Power Inductors; Match Code: WE-MAPI; ComponentLink1Description: Website Link; ComponentLink1URL: https://www.we-online.com/redexpert/article/74438357018?ad; ComponentLink2Description: Datasheet Link; ComponentLink2URL: https://www.we-online.com/redexpert/spec/74438357018?ad; Mount: Surface Mount; Min Operating Temperature: -40 °C; Max Operating Temperature: 125 °C; Packaging: Tape and Reel; Length: 4.1 mm; Width: 4.1 mm; Height: 3.1 mm; Inductance: 1.8 μH
footprint WE-MAPI_4030
simulation model 4030_74438357018_1.8u
pins: 1, 2

## 74438357022
designator L?, comment 2.2 μH
WE-MAPI SMT Power Inductor, size 4030, 2.2 μH, 7.1 A, 22 mΩ; Manufacturer Part Number: 74438357022; Manufacturer: Wurth Elektronik; Case/Size Code: 4030; DC Resistance: 22 mΩ; Operating Voltage (DC): 80 V; Performance Rated Current: 7.1 A; Saturation Current @ 30%: 9.2 A; Self Resonant Frequency: 35 MHz; Category: Power Inductors; Match Code: WE-MAPI; ComponentLink1Description: Website Link; ComponentLink1URL: https://www.we-online.com/redexpert/article/74438357022?ad; ComponentLink2Description: Datasheet Link; ComponentLink2URL: https://www.we-online.com/redexpert/spec/74438357022?ad; Mount: Surface Mount; Min Operating Temperature: -40 °C; Max Operating Temperature: 125 °C; Packaging: Tape and Reel; Length: 4.1 mm; Width: 4.1 mm; Height: 3.1 mm; Inductance: 2.2 μH
footprint WE-MAPI_4030
simulation model 4030_74438357022_2.2u
pins: 1, 2

## 74438357033
designator L?, comment 3.3 μH
WE-MAPI SMT Power Inductor, size 4030, 3.3 μH, 6.1 A, 29 mΩ; Manufacturer Part Number: 74438357033; Manufacturer: Wurth Elektronik; Case/Size Code: 4030; DC Resistance: 29 mΩ; Operating Voltage (DC): 80 V; Performance Rated Current: 6.1 A; Saturation Current @ 30%: 6.8 A; Self Resonant Frequency: 26 MHz; Category: Power Inductors; Match Code: WE-MAPI; ComponentLink1Description: Website Link; ComponentLink1URL: https://www.we-online.com/redexpert/article/74438357033?ad; ComponentLink2Description: Datasheet Link; ComponentLink2URL: https://www.we-online.com/redexpert/spec/74438357033?ad; Mount: Surface Mount; Min Operating Temperature: -40 °C; Max Operating Temperature: 125 °C; Packaging: Tape and Reel; Length: 4.1 mm; Width: 4.1 mm; Height: 3.1 mm; Inductance: 3.3 μH
footprint WE-MAPI_4030
simulation model 4030_74438357033_3.3u
pins: 1, 2

## 74438357047
designator L?, comment 4.7 μH
WE-MAPI SMT Power Inductor, size 4030, 4.7 μH, 5.1 A, 39.9 mΩ; Manufacturer Part Number: 74438357047; Manufacturer: Wurth Elektronik; Case/Size Code: 4030; DC Resistance: 39.9 mΩ; Operating Voltage (DC): 80 V; Performance Rated Current: 5.1 A; Saturation Current @ 30%: 8.2 A; Self Resonant Frequency: 24 MHz; Category: Power Inductors; Match Code: WE-MAPI; ComponentLink1Description: Website Link; ComponentLink1URL: https://www.we-online.com/redexpert/article/74438357047?ad; ComponentLink2Description: Datasheet Link; ComponentLink2URL: https://www.we-online.com/redexpert/spec/74438357047?ad; Mount: Surface Mount; Min Operating Temperature: -40 °C; Max Operating Temperature: 125 °C; Packaging: Tape and Reel; Length: 4.1 mm; Width: 4.1 mm; Height: 3.1 mm; Inductance: 4.7 μH
footprint WE-MAPI_4030
simulation model 4030_74438357047_4.7u
pins: 1, 2

## 74438357056
designator L?, comment 5.6 μH
WE-MAPI SMT Power Inductor, size 4030, 5.6 μH, 4.7 A, 46.5 mΩ; Manufacturer Part Number: 74438357056; Manufacturer: Wurth Elektronik; Case/Size Code: 4030; DC Resistance: 46.5 mΩ; Operating Voltage (DC): 80 V; Performance Rated Current: 4.7 A; Saturation Current @ 30%: 8.1 A; Self Resonant Frequency: 21 MHz; Category: Power Inductors; Match Code: WE-MAPI; ComponentLink1Description: Website Link; ComponentLink1URL: https://www.we-online.com/redexpert/article/74438357056?ad; ComponentLink2Description: Datasheet Link; ComponentLink2URL: https://www.we-online.com/redexpert/spec/74438357056?ad; Mount: Surface Mount; Min Operating Temperature: -40 °C; Max Operating Temperature: 125 °C; Packaging: Tape and Reel; Length: 4.1 mm; Width: 4.1 mm; Height: 3.1 mm; Inductance: 5.6 μH
footprint WE-MAPI_4030
simulation model 4030_74438357056_5.6u
pins: 1, 2

## 74438357068
designator L?, comment 6.8 μH
WE-MAPI SMT Power Inductor, size 4030, 6.8 μH, 3.75 A, 69.4 mΩ; Manufacturer Part Number: 74438357068; Manufacturer: Wurth Elektronik; Case/Size Code: 4030; DC Resistance: 69.4 mΩ; Operating Voltage (DC): 80 V; Performance Rated Current: 3.75 A; Saturation Current @ 30%: 7.2 A; Self Resonant Frequency: 19.5 MHz; Category: Power Inductors; Match Code: WE-MAPI; ComponentLink1Description: Website Link; ComponentLink1URL: https://www.we-online.com/redexpert/article/74438357068?ad; ComponentLink2Description: Datasheet Link; ComponentLink2URL: https://www.we-online.com/redexpert/spec/74438357068?ad; Mount: Surface Mount; Min Operating Temperature: -40 °C; Max Operating Temperature: 125 °C; Packaging: Tape and Reel; Length: 4.1 mm; Width: 4.1 mm; Height: 3.1 mm; Inductance: 6.8 μH
footprint WE-MAPI_4030
simulation model 4030_74438357068_6.8u
pins: 1, 2

## 74438357082
designator L?, comment 8.2 μH
WE-MAPI SMT Power Inductor, size 4030, 8.2 μH, 3.45 A, 81 mΩ; Manufacturer Part Number: 74438357082; Manufacturer: Wurth Elektronik; Case/Size Code: 4030; DC Resistance: 81 mΩ; Operating Voltage (DC): 80 V; Performance Rated Current: 3.45 A; Saturation Current @ 30%: 6.8 A; Self Resonant Frequency: 17 MHz; Category: Power Inductors; Match Code: WE-MAPI; ComponentLink1Description: Website Link; ComponentLink1URL: https://www.we-online.com/redexpert/article/74438357082?ad; ComponentLink2Description: Datasheet Link; ComponentLink2URL: https://www.we-online.com/redexpert/spec/74438357082?ad; Mount: Surface Mount; Min Operating Temperature: -40 °C; Max Operating Temperature: 125 °C; Packaging: Tape and Reel; Length: 4.1 mm; Width: 4.1 mm; Height: 3.1 mm; Inductance: 8.2 μH
footprint WE-MAPI_4030
simulation model 4030_74438357082_8.2u
pins: 1, 2

## 74438357100
designator L?, comment 10 μH
WE-MAPI SMT Power Inductor, size 4030, 10 μH, 3.05 A, 100.8 mΩ; Manufacturer Part Number: 74438357100; Manufacturer: Wurth Elektronik; Case/Size Code: 4030; Operating Voltage (DC): 80 V; Performance Rated Current: 3.05 A; Saturation Current @ 30%: 5.95 A; Self Resonant Frequency: 15 MHz; Category: Power Inductors; Match Code: WE-MAPI; ComponentLink1Description: Website Link; ComponentLink1URL: https://www.we-online.com/redexpert/article/74438357100?ad; ComponentLink2Description: Datasheet Link; ComponentLink2URL: https://www.we-online.com/redexpert/spec/74438357100?ad; Mount: Surface Mount; Min Operating Temperature: -40 °C; Max Operating Temperature: 125 °C; Packaging: Tape and Reel; Length: 4.1 mm; Width: 4.1 mm; Height: 3.1 mm; DC Resistance: 100.8 mΩ; Inductance: 10 μH
footprint WE-MAPI_4030
simulation model 4030_74438357100_10u
pins: 1, 2

## 74438366010
designator L?, comment 1 μH
WE-MAPI SMT Power Inductor, size 5020, 1 μH, 11.1 A, 11.4 mΩ; Manufacturer Part Number: 74438366010; Manufacturer: Wurth Elektronik; Case/Size Code: 5020; DC Resistance: 11.4 mΩ; Operating Voltage (DC): 80 V; Performance Rated Current: 11.1 A; Saturation Current @ 30%: 14 A; Self Resonant Frequency: 50 MHz; Category: Power Inductors; Match Code: WE-MAPI; ComponentLink1Description: Website Link; ComponentLink1URL: https://www.we-online.com/redexpert/article/74438366010?ad; ComponentLink2Description: Datasheet Link; ComponentLink2URL: https://www.we-online.com/redexpert/spec/74438366010?ad; Mount: Surface Mount; Min Operating Temperature: -40 °C; Max Operating Temperature: 125 °C; Packaging: Tape and Reel; Length: 5.4 mm; Width: 5.4 mm; Height: 2.1 mm; Inductance: 1 μH
footprint WE-MAPI_5020
simulation model 5020_74438366010_1u
pins: 1, 2

## 74438366015
designator L?, comment 1.5 μH
WE-MAPI SMT Power Inductor, size 5020, 1.5 μH, 8.45 A, 18.5 mΩ; Manufacturer Part Number: 74438366015; Manufacturer: Wurth Elektronik; Case/Size Code: 5020; DC Resistance: 18.5 mΩ; Operating Voltage (DC): 80 V; Performance Rated Current: 8.45 A; Saturation Current @ 30%: 13.2 A; Self Resonant Frequency: 35 MHz; Category: Power Inductors; Match Code: WE-MAPI; ComponentLink1Description: Website Link; ComponentLink1URL: https://www.we-online.com/redexpert/article/74438366015?ad; ComponentLink2Description: Datasheet Link; ComponentLink2URL: https://www.we-online.com/redexpert/spec/74438366015?ad; Mount: Surface Mount; Min Operating Temperature: -40 °C; Max Operating Temperature: 125 °C; Packaging: Tape and Reel; Length: 5.4 mm; Width: 5.4 mm; Height: 2.1 mm; Inductance: 1.5 μH
footprint WE-MAPI_5020
simulation model 5020_74438366015_1.5u
pins: 1, 2

## 74438366022
designator L?, comment 2.2 μH
WE-MAPI SMT Power Inductor, size 5020, 2.2 μH, 7.4 A, 23.7 mΩ; Manufacturer Part Number: 74438366022; Manufacturer: Wurth Elektronik; Case/Size Code: 5020; DC Resistance: 23.7 mΩ; Operating Voltage (DC): 80 V; Performance Rated Current: 7.4 A; Saturation Current @ 30%: 12 A; Self Resonant Frequency: 31.5 MHz; Category: Power Inductors; Match Code: WE-MAPI; ComponentLink1Description: Website Link; ComponentLink1URL: https://www.we-online.com/redexpert/article/74438366022?ad; ComponentLink2Description: Datasheet Link; ComponentLink2URL: https://www.we-online.com/redexpert/spec/74438366022?ad; Mount: Surface Mount; Min Operating Temperature: -40 °C; Max Operating Temperature: 125 °C; Packaging: Tape and Reel; Length: 5.4 mm; Width: 5.4 mm; Height: 2.1 mm; Inductance: 2.2 μH
footprint WE-MAPI_5020
simulation model 5020_74438366022_2.2u
pins: 1, 2